# Altium footprint library БУНЭ.PcbLib: 34 footprints (part 3 of 3)
Each footprint in its own frame and in the unit in brackets; x right, y up, seen from the top. Pads: shape width x height; smd on the part's side, far side on the other; paste and mask are expansions set on the pad; w line width, h text height; cw(c..) or ccw(c..) is an arc to the next point about the centre after c.
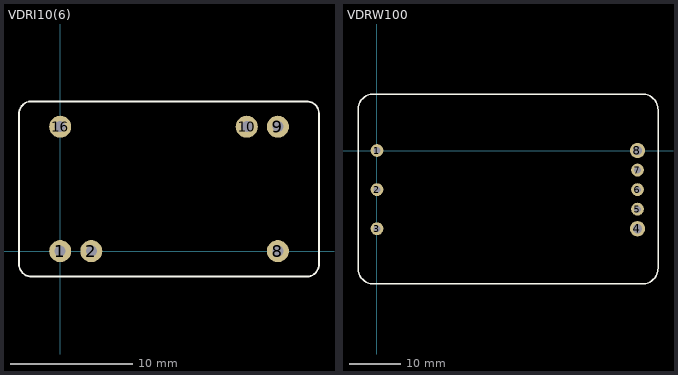
[diagram p2: the footprints below, top view; thin cyan lines are the x and y axes]

## VDRI10(6) [mm]
pads (6):
  round 1.8 hole 0.9: 1(0,0) 2(2.54,0) 8(17.78,0) 9(17.78,10.16) 10(15.24,10.16) 16(0,10.16)
Top Overlay:
  lines w0.15: -3.364,-1.11 ccw(c-2.364,-1.071) -2.325,-2.07 ; -3.36,-1.21 -3.36,11.191 cw(c-2.361,11.231) -2.4,12.23 ; -2.45,12.23 20.151,12.23 ; -2.371,-2.07 20.339,-2.07 ; 20.1,12.23 cw(c20.139,11.231) 21.139,11.27 ; 20.3,-2.07 ccw(c20.138,-1.083) 21.137,-1.044 ; 21.14,-1.131 21.14,11.27
3D body "MDRI10(6).step": height 8.6, standoff -5.5, extent -3.12,-1.97 20.98,12.03

## VDRW100 [mm]
height 12.7
pads (8):
  round 2.5 hole 1.3: 1(0,0) 2(0,-7.62) 3(0,-15.24) 5(50.8,-11.43) 6(50.8,-7.62) 7(50.8,-3.81)
  round 3 hole 1.8: 4(50.8,-15.24) 8(50.8,0)
Top Overlay:
  lines w0.254: -3.7,-23 ccw(c-0.7,-23) -0.7,-26 51.8,-26 ccw(c51.8,-23) 54.8,-23 54.8,8 ccw(c51.8,8) 51.8,11 -0.7,11 ccw(c-0.7,8) -3.7,8 -3.7,-23
Mechanical 2:
  circle w0.15: c0,-7.62 r0.5
  circle w0.15: c50.8,-3.81 r0.5
  circle w0.15: c50.8,-7.62 r0.5
  circle w0.15: c50.8,-11.43 r0.5
  circle w0.1: c50.8,0 r0.75
  circle w0.1: c50.8,-15.24 r0.75
  circle w0.15: c0,-15.24 r0.5
  circle w0.15: c0,0 r0.5
3D body "Q-Brick_50.stp": height 12.8, standoff -3.9, extent -3.6,-25.925 54.8,10.875